# EAGLE library part 691313510008 (library Terminal_Blocks_Connectors_rev15e)
WR-TBL Serie 313 - 5.08 mm Close Horizontal PCB Header , 8 Pins=>Code : Con_TBL_Pluggable_5.08_PCB_THT_Simple_H_691313510008 <http://katalog.we-online.de/media/images/eican/Con_TBL_Pluggable_5.08_PCB_THT_Simple_H_6913135100xx_pf2.jpg> Details see: http://katalog.we-online.de/en/em/691_313_510_0xx Created 2014-06-25, Karrer Zheng 2014 (C) Würth Elektronik
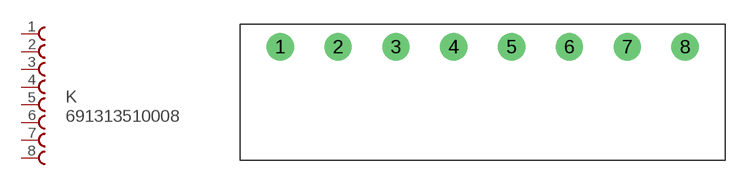
[diagram p114: symbol with the pads of 691313510008; footprint 691313510008]

Designator prefix K

## 691313510008  [691313510008]
1  1  pas
2  2  pas
3  3  pas
4  4  pas
5  5  pas
6  6  pas
7  7  pas
8  8  pas

## Footprint 691313510008 (pad centres in mm)
WR-TBL Serie 313 - 5.08 mm Close Horizontal PCB Header , 8 Pins
drill 1.6: 1 -25.4,0; 2 -20.32,0; 3 -15.24,0; 4 -10.16,0; 5 -5.08,0; 6 0,0; 7 5.08,0; 8 10.16,0